# EAGLE library part 24-* (library microchip)
Serial EEPROM 32 K/64 K, 1.8 V, I2C
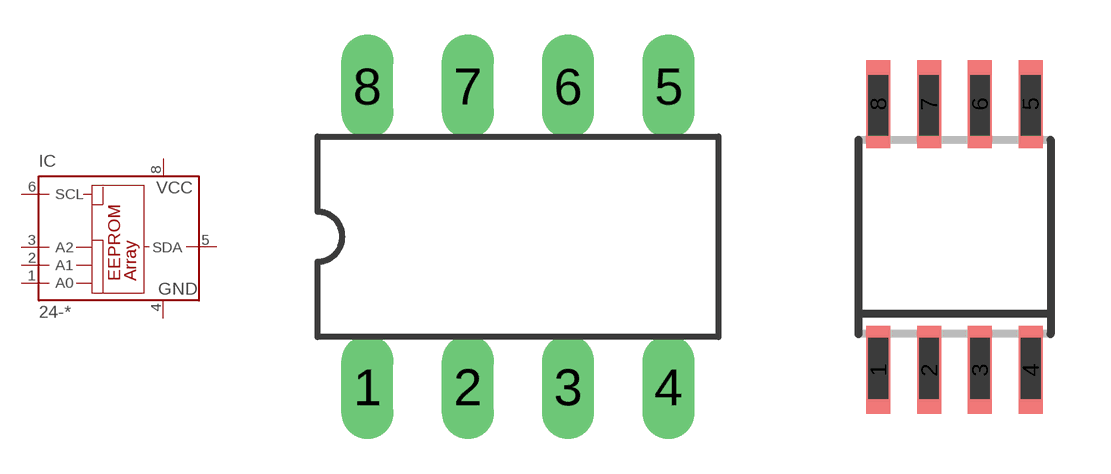
[diagram p45: symbol with the pads of DIL8; footprints DIL8, SO-08M]

Designator prefix IC

## 24-AA65P (MPN: 24AA65/P; OC_FARNELL: 1331306; OC_NEWARK: 35M0721), 24-C32P (MPN: AT24C32C-PU; OC_FARNELL: 1362652; OC_NEWARK: 50M3325), 24-C65P (MF: MICROCHIP; MPN: 24C65/P; OC_FARNELL: 9757821; OC_NEWARK: 89C9798), 24-FC32P (OC_FARNELL: unknown; OC_NEWARK: unknown), 24-FC65P (OC_FARNELL: unknown; OC_NEWARK: unknown), 24-LC32P (MF: MICROCHIP; MPN: 24LC32A/P; OC_FARNELL: 1084246; OC_NEWARK: 75K1884), 24-LC65P (MF: MICROCHIP; MPN: 24LC65/P; OC_FARNELL: 9758089; OC_NEWARK: 88K1357)  [DIL8]
1  A0  in
2  A1  in
3  A2  in
4  GND  pwr
5  SDA
6  SCL  in
8  VCC  pwr

## 24-AA65SM (MF: MICROCHIP; MPN: 24AA65/SM; OC_FARNELL: 1331307; OC_NEWARK: 92C6926), 24-C32SM (MPN: M24C32-WMN6P; OC_FARNELL: 1362654; OC_NEWARK: 56P9110), 24-C65SM (MF: MICROCHIP; MPN: 24C65/SM; OC_FARNELL: 1467721; OC_NEWARK: 96K4066), 24-FC32SM (OC_FARNELL: unknown; OC_NEWARK: unknown), 24-FC65SM (OC_FARNELL: unknown; OC_NEWARK: unknown), 24-LC32SM (MF: MICROCHIP; MPN: 24LC32A/SM; OC_FARNELL: 1212670; OC_NEWARK: 96K4080), 24-LC65SM (MF: MICROCHIP; MPN: 24LC65/SM; OC_FARNELL: 9758097; OC_NEWARK: 96K4082)  [SO-08M]
Pads as for DIL8

## Footprint DIL8 (pad centres in mm)
Dual In Line package type P
drill 0.813 long: 1 -3.81,-3.81; 2 -1.27,-3.81; 3 1.27,-3.81; 4 3.81,-3.81; 5 3.81,3.81; 6 1.27,3.81; 7 -1.27,3.81; 8 -3.81,3.81

## Footprint SO-08M (pad centres in mm)
Small Outline Medium Plastic Gull Wing 207-mil body, package type SM
smd 0.6 x 2.2: 1 -1.905,-3.33; 2 -0.635,-3.33; 3 0.635,-3.33; 4 1.905,-3.33; 5 1.905,3.33; 6 0.635,3.33; 7 -0.635,3.33; 8 -1.905,3.33